# EAGLE library part MAX17044 (library NewPart)
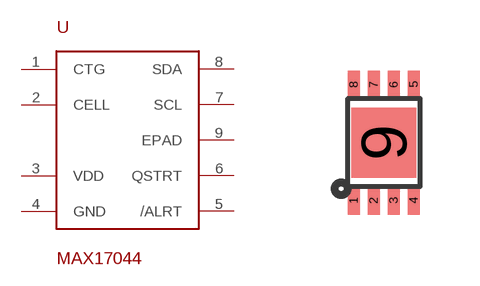
[diagram p3: symbol with the pads of TDFN; footprint TDFN]

Designator prefix U

## MAX17044  [TDFN]
1  CTG
2  CELL
3  VDD
4  GND
5  /ALRT
6  QSTRT
7  SCL
8  SDA
9  EPAD

## Footprint TDFN (pad centres in mm)
smd 0.3 x 0.7: 1 -0.75,-1.45; 2 -0.25,-1.45; 3 0.25,-1.45; 4 0.75,-1.45; 5 0.75,1.45; 6 0.25,1.45; 7 -0.25,1.45; 8 -0.75,1.45
smd 1.63 x 1.75: 9 0,0